# EAGLE library part POCKETBEAGLE (library PocketBeagle)
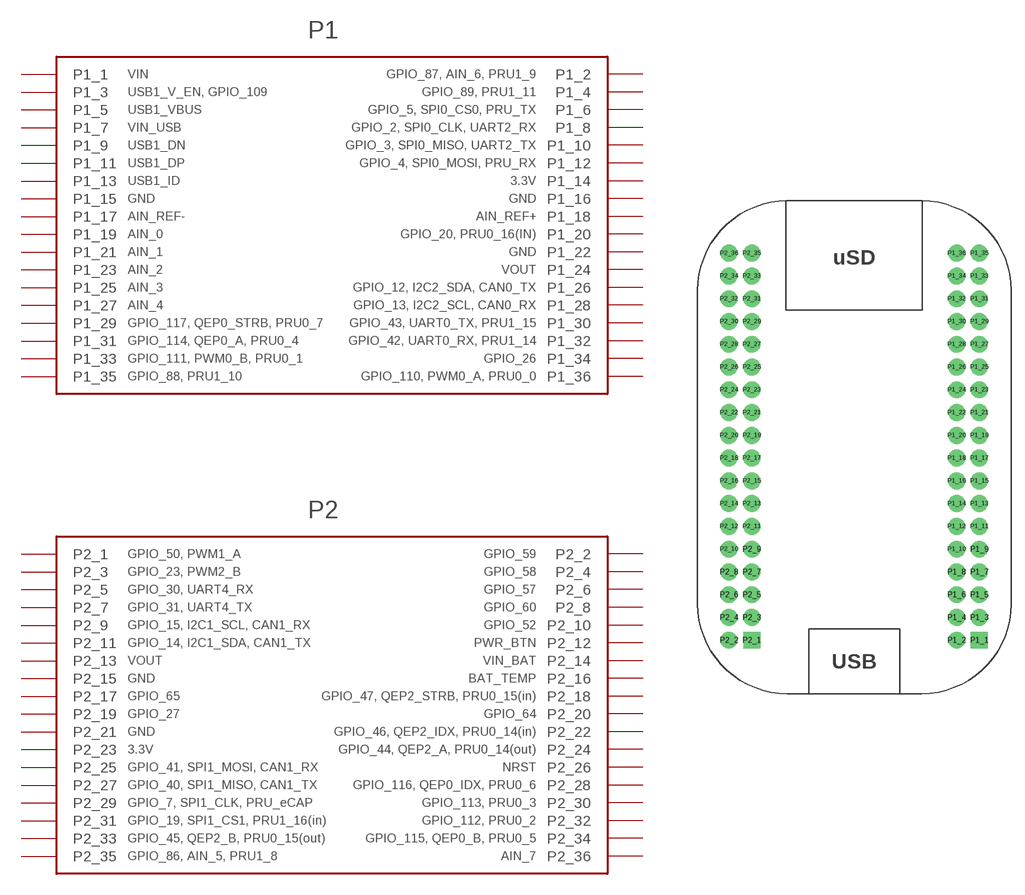
[diagram p0: symbol with the pads of POCKETBEAGLE; footprint POCKETBEAGLE]

Designator prefix -; gates G$1=POCKETBEAGLE_P1 G$2=POCKETBEAGLE_P2

## POCKETBEAGLE (DPN: POCKETBEAGLE-SC-569-ND; MPN: POCKETBEAGLE-SC-569)  [POCKETBEAGLE]
P1_1  G$1:P1_1
P1_2  G$1:P1_2
P1_3  G$1:P1_3
P1_4  G$1:P1_4
P1_5  G$1:P1_5
P1_6  G$1:P1_6
P1_7  G$1:P1_7
P1_8  G$1:P1_8
P1_9  G$1:P1_9
P1_10  G$1:P1_10
P1_11  G$1:P1_11
P1_12  G$1:P1_12
P1_13  G$1:P1_13
P1_14  G$1:P1_14
P1_15  G$1:P1_15
P1_16  G$1:P1_16
P1_17  G$1:P1_17
P1_18  G$1:P1_18
P1_19  G$1:P1_19
P1_20  G$1:P1_20
P1_21  G$1:P1_21
P1_22  G$1:P1_22
P1_23  G$1:P1_23
P1_24  G$1:P1_24
P1_25  G$1:P1_25
P1_26  G$1:P1_26
P1_27  G$1:P1_27
P1_28  G$1:P1_28
P1_29  G$1:P1_29
P1_30  G$1:P1_30
P1_31  G$1:P1_31
P1_32  G$1:P1_32
P1_33  G$1:P1_33
P1_34  G$1:P1_34
P1_35  G$1:P1_35
P1_36  G$1:P1_36
P2_1  G$2:P2_1
P2_2  G$2:P2_2
P2_3  G$2:P2_3
P2_4  G$2:P2_4
P2_5  G$2:P2_5
P2_6  G$2:P2_6
P2_7  G$2:P2_7
P2_8  G$2:P2_8
P2_9  G$2:P2_9
P2_10  G$2:P2_10
P2_11  G$2:P2_11
P2_12  G$2:P2_12
P2_13  G$2:P2_13
P2_14  G$2:P2_14
P2_15  G$2:P2_15
P2_16  G$2:P2_16
P2_17  G$2:P2_17
P2_18  G$2:P2_18
P2_19  G$2:P2_19
P2_20  G$2:P2_20
P2_21  G$2:P2_21
P2_22  G$2:P2_22
P2_23  G$2:P2_23
P2_24  G$2:P2_24
P2_25  G$2:P2_25
P2_26  G$2:P2_26
P2_27  G$2:P2_27
P2_28  G$2:P2_28
P2_29  G$2:P2_29
P2_30  G$2:P2_30
P2_31  G$2:P2_31
P2_32  G$2:P2_32
P2_33  G$2:P2_33
P2_34  G$2:P2_34
P2_35  G$2:P2_35
P2_36  G$2:P2_36

## Footprint POCKETBEAGLE (pad centres in mm)
drill 1.016 pad 1.88 square: P1_1 13.97,-21.59; P2_1 -11.43,-21.59
drill 1.016 pad 1.88: P1_2 11.43,-21.59; P1_3 13.97,-19.05; P1_4 11.43,-19.05; P1_5 13.97,-16.51; P1_6 11.43,-16.51; P1_7 13.97,-13.97; P1_8 11.43,-13.97; P1_9 13.97,-11.43; P1_10 11.43,-11.43; P1_11 13.97,-8.89; P1_12 11.43,-8.89; P1_13 13.97,-6.35; P1_14 11.43,-6.35; P1_15 13.97,-3.81; P1_16 11.43,-3.81; P1_17 13.97,-1.27; P1_18 11.43,-1.27; P1_19 13.97,1.27; P1_20 11.43,1.27; P1_21 13.97,3.81; P1_22 11.43,3.81; P1_23 13.97,6.35; P1_24 11.43,6.35; P1_25 13.97,8.89; P1_26 11.43,8.89; P1_27 13.97,11.43; P1_28 11.43,11.43; P1_29 13.97,13.97; P1_30 11.43,13.97; P1_31 13.97,16.51; P1_32 11.43,16.51; P1_33 13.97,19.05; P1_34 11.43,19.05; P1_35 13.97,21.59; P1_36 11.43,21.59; P2_2 -13.97,-21.59; P2_3 -11.43,-19.05; P2_4 -13.97,-19.05; P2_5 -11.43,-16.51; P2_6 -13.97,-16.51; P2_7 -11.43,-13.97; P2_8 -13.97,-13.97; P2_9 -11.43,-11.43; P2_10 -13.97,-11.43; P2_11 -11.43,-8.89; P2_12 -13.97,-8.89; P2_13 -11.43,-6.35; P2_14 -13.97,-6.35; P2_15 -11.43,-3.81; P2_16 -13.97,-3.81; P2_17 -11.43,-1.27; P2_18 -13.97,-1.27; P2_19 -11.43,1.27; P2_20 -13.97,1.27; P2_21 -11.43,3.81; P2_22 -13.97,3.81; P2_23 -11.43,6.35; P2_24 -13.97,6.35; P2_25 -11.43,8.89; P2_26 -13.97,8.89; P2_27 -11.43,11.43; P2_28 -13.97,11.43; P2_29 -11.43,13.97; P2_30 -13.97,13.97; P2_31 -11.43,16.51; P2_32 -13.97,16.51; P2_33 -11.43,19.05; P2_34 -13.97,19.05; P2_35 -11.43,21.59; P2_36 -13.97,21.59